# EAGLE library part LMV358IDGKR (library LMV358IDGKR)
Dual Low-Voltage Rail-to-Rail Output Operational Amplifier 8-VSSOP -40 to 125
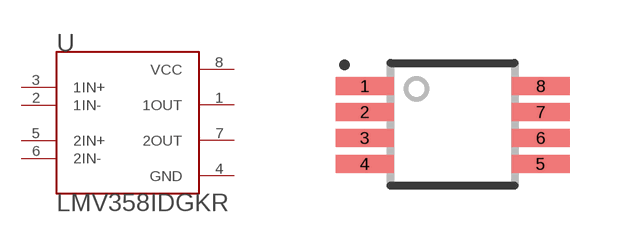
[diagram p0: symbol with the pads of SOP65P490X110-8N; footprint SOP65P490X110-8N]

Designator prefix U

## LMV358IDGKR (Availability: Unavailable; Description: Dual Low-Voltage Rail-to-Rail Output Operational Amplifier 8-VSSOP -40 to 125; MF: Texas Instruments; MP: LMV358IDGKR; Package: MSOP-8 Texas Instruments; Price: None)  [SOP65P490X110-8N]
1  1OUT  out
2  1IN-  in
3  1IN+  in
4  GND  pwr
5  2IN+  in
6  2IN-  in
7  2OUT  out
8  VCC  pwr

## Footprint SOP65P490X110-8N (pad centres in mm)
smd 1.45 x 0.45: 1 -2.2,0.975; 2 -2.2,0.325; 3 -2.2,-0.325; 4 -2.2,-0.975; 5 2.2,-0.975; 6 2.2,-0.325; 7 2.2,0.325; 8 2.2,0.975